# Altium schematic symbol library 1053131102.SchLib: 2 symbols
Pins are listed as number, name and electrical type; pins without a type are passive.

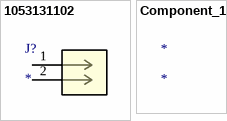
[diagram p0: symbols 1053131102 to Component_1]

## 1053131102
designator J?
No Description Available; Mfr_Name: Molex Connector Corporation; RefDes: RefDes; Type: Type
footprint CON_1053131102
pins: 1, 2

## Component_1
designator *